# Altium schematic symbol library TI_TLC59283DBQR.SchLib: 1 symbol
Pins are listed as number, name and electrical type; pins without a type are passive.

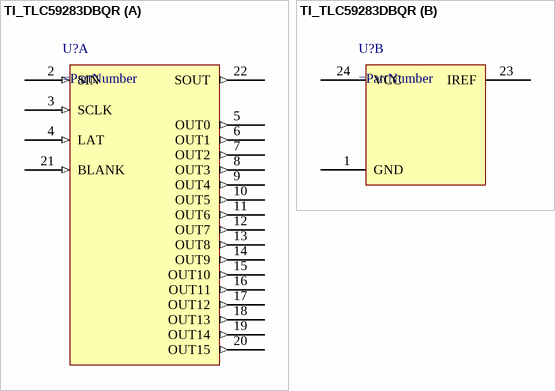
[diagram p0: symbol TI_TLC59283DBQR]

## TI_TLC59283DBQR
designator U?
part A pins: 2 SIN (in), 3 SCLK (in), 4 LAT (in), 5 OUT0 (out), 6 OUT1 (out), 7 OUT2 (out), 8 OUT3 (out), 9 OUT4 (out), 10 OUT5 (out), 11 OUT6 (out), 12 OUT7 (out), 13 OUT8 (out), 14 OUT9 (out), 15 OUT10 (out), 16 OUT11 (out), 17 OUT12 (out), 18 OUT13 (out), 19 OUT14 (out), 20 OUT15 (out), 21 BLANK (in), 22 SOUT (out)
part B pins: 1 GND, 23 IREF, 24 VCC